# Altium schematic symbol library RES 1.6k 1_8W.Schlib: 1 symbol
Pins are listed as number, name and electrical type; pins without a type are passive.

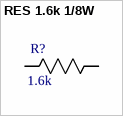
[diagram p0: symbol RES 1.6k 1/8W]

## RES 1.6k 1/8W
designator R?, comment 1.6k
RES SMD 1.6K OHM 5% 1/8W 0805
pins: 1 R1, 2 R2